# EAGLE library part TS5A2066 (library ardustat)
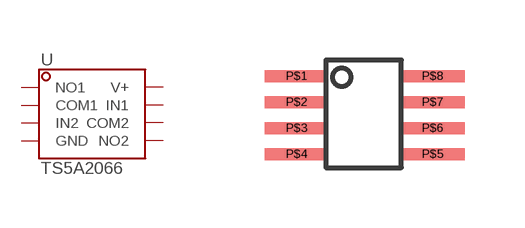
[diagram p14: symbol with the pads of TS5A2066; footprint TS5A2066]

Designator prefix -

## TS5A2066  [TS5A2066]
P$1  NO1
P$2  COM1
P$3  IN2
P$4  GND
P$5  NO2
P$6  COM2
P$7  IN1
P$8  V+

## Footprint TS5A2066 (pad centres in mm)
smd 1.6 x 0.3: P$1 -1.657,0.937; P$2 -1.657,0.287; P$3 -1.657,-0.363; P$4 -1.657,-1.013; P$5 1.743,-1.013; P$6 1.743,-0.363; P$7 1.743,0.287; P$8 1.743,0.937